# Altium footprint library STC3115AIQT.PcbLib: 1 footprints
Each footprint in its own frame and in the unit in brackets; x right, y up, seen from the top. Pads: shape width x height; smd on the part's side, far side on the other; paste and mask are expansions set on the pad; w line width, h text height; cw(c..) or ccw(c..) is an arc to the next point about the centre after c.
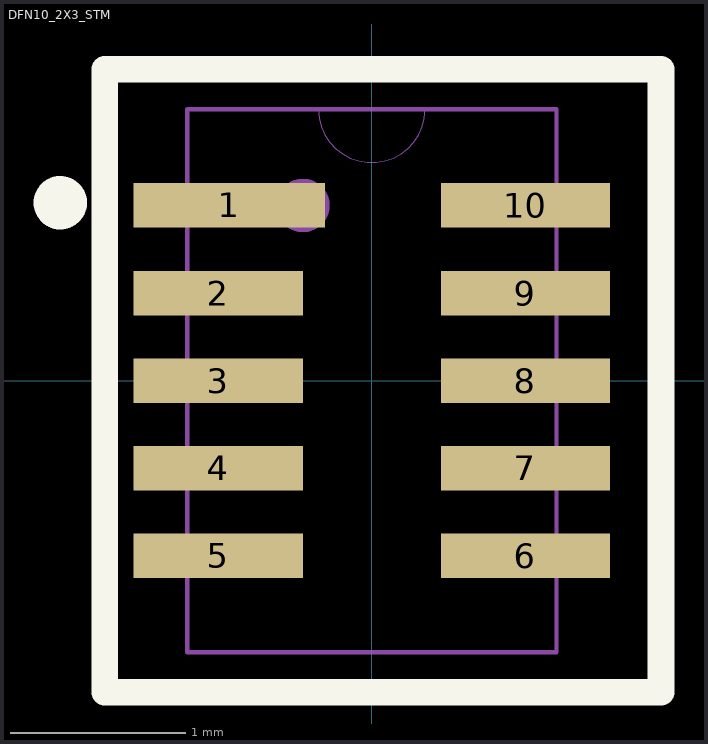
[diagram p0: the footprint, top view; thin cyan lines are the x and y axes]

## DFN10_2X3_STM [mil]
pads (10):
  rect 43x10 smd paste+0 mask+0: 1(-32,39.37)
  rect 38x10 smd paste+0 mask+0: 2(-34.5,19.68) 3(-34.5,0) 4(-34.5,-19.68) 5(-34.5,-39.37) 6(34.5,-39.37) 7(34.5,-19.68) 8(34.5,0) 9(34.5,19.68) 10(34.5,39.37)
Top Overlay:
  circle w6: c-70,40 r3
  lines w6: -60,-70 -60,70 65,70 65,-70 -60,-70
  text ".Designator" at -65,80 h20
Mechanical 13:
  circle w6: c-15.5,39.37 r3
  lines w0: -12,61 ccw(c0,61) 12,61
  lines w1: -41.5,-61 41.5,-61 41.5,61 -41.5,61 -41.5,-61
3D body "DFN10_2X3_STM.step": height 22.09, standoff 0, extent -41.5,-60.98 41.5,60.98